# Altium footprint library teensy_4_0.PcbLib: 1 footprints
Each footprint in its own frame and in the unit in brackets; x right, y up, seen from the top. Pads: shape width x height; smd on the part's side, far side on the other; paste and mask are expansions set on the pad; w line width, h text height; cw(c..) or ccw(c..) is an arc to the next point about the centre after c.
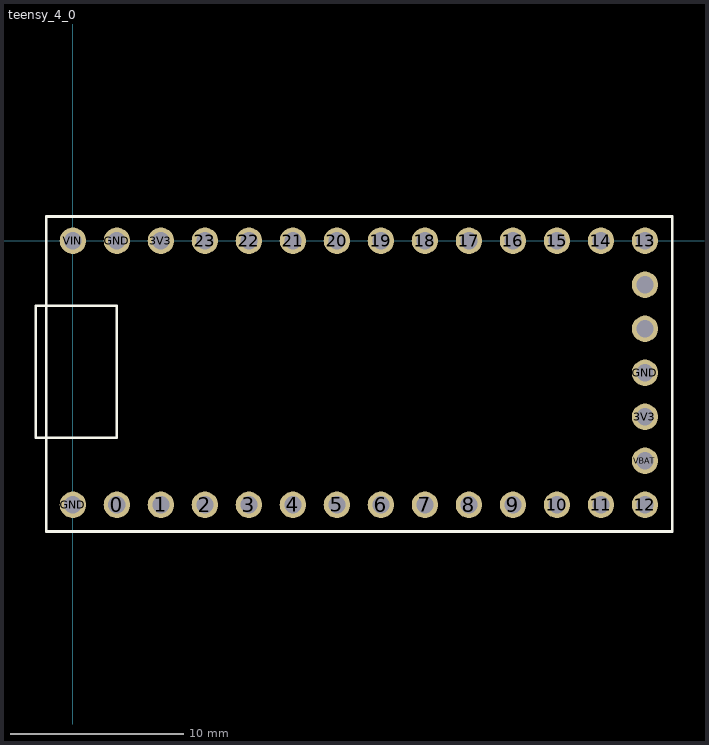
[diagram p0: the footprint, top view; thin cyan lines are the x and y axes]

## teensy_4_0 [mil]
pads (33):
  round 60 hole 39.37: 0(100.01,-600) 1(200.01,-600) 2(300.01,-600) 3(400.01,-600) 3V3(200,0) 3V3(1300,-400) 4(500.01,-600) 5(600.01,-600) 6(700.01,-600) 7(800.01,-600) 8(900.01,-600) 9(1000.01,-600) 10(1100.01,-600) 11(1200.01,-600) 12(1300.01,-600) 13(1300,0) 14(1200,0) 15(1100,0) 16(1000,0) 17(900,0) 18(800,0) 19(700,0) 20(600,0) 21(500,0) 22(400,0) 23(300,0) GND(0.01,-600) GND(100,0) GND(1300,-300) On_Off(1300,-100) Program(1300,-200) VBAT(1300,-500) VIN(0,0)
Top Overlay:
  lines w5.91: -84.25,-447.64 100,-447.64 100,-147.64 -84.25,-147.64 -84.25,-447.64
  lines w6.3: -60.63,-660.63 1361.81,-660.63 ; -60.63,-660 -60.63,55 ; -60.63,55.12 1361.81,55.12 1361.81,-660
3D body "2756 Teensy 3.2.step": height 261.42, standoff 1.57, extent -50,-650 1350,50